# EAGLE library part MSP430X11X1---RGE24 (library MSP430F1xxx)
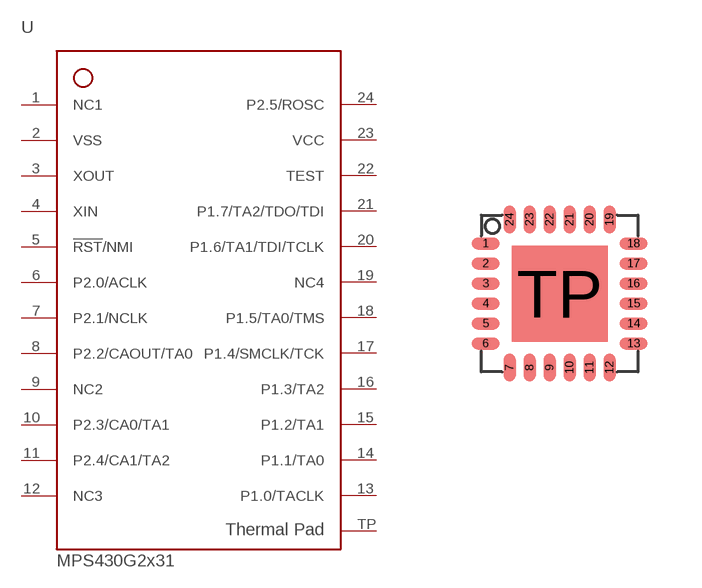
[diagram p5: symbol with the pads of RGE24; footprint RGE24]

Designator prefix -

## MSP430X11X1---RGE24  [RGE24]
1  NC1  nc
2  VSS  pwr
3  XOUT  out
4  XIN  in
5  !RST!/NMI  in
6  P2.0/ACLK
7  P2.1/NCLK
8  P2.2/CAOUT/TA0
9  NC2  nc
10  P2.3/CA0/TA1
11  P2.4/CA1/TA2
12  NC3  nc
13  P1.0/TACLK
14  P1.1/TA0
15  P1.2/TA1
16  P1.3/TA2
17  P1.4/SMCLK/TCK
18  P1.5/TA0/TMS
19  NC4  nc
20  P1.6/TA1/TDI/TCLK
21  P1.7/TA2/TDO/TDI
22  TEST  in
23  VCC  pwr
24  P2.5/ROSC
TP  TP  pwr

## Footprint RGE24 (pad centres in mm)
*** TI: RGE *** JEDEC: S-PQFP-N24 *** 24 PINS *** ---> PIN25 (exposed thermal die pad) should be connected with GND
smd 0.7 x 0.3: 1 -1.85,1.25; 2 -1.85,0.75; 3 -1.85,0.25; 4 -1.85,-0.25; 5 -1.85,-0.75; 6 -1.85,-1.25; 13 1.85,-1.25; 14 1.85,-0.75; 15 1.85,-0.25; 16 1.85,0.25; 17 1.85,0.75; 18 1.85,1.25
smd 0.3 x 0.7: 7 -1.25,-1.85; 8 -0.75,-1.85; 9 -0.25,-1.85; 10 0.25,-1.85; 11 0.75,-1.85; 12 1.25,-1.85; 19 1.25,1.85; 20 0.75,1.85; 21 0.25,1.85; 22 -0.25,1.85; 23 -0.75,1.85; 24 -1.25,1.85
smd 2.4 x 2.4: TP 0,0